# Altium footprint library XL_CRYSTAL_TH_0.3x0.3.PcbLib: 1 footprints
Each footprint in its own frame and in the unit in brackets; x right, y up, seen from the top. Pads: shape width x height; smd on the part's side, far side on the other; paste and mask are expansions set on the pad; w line width, h text height; cw(c..) or ccw(c..) is an arc to the next point about the centre after c.
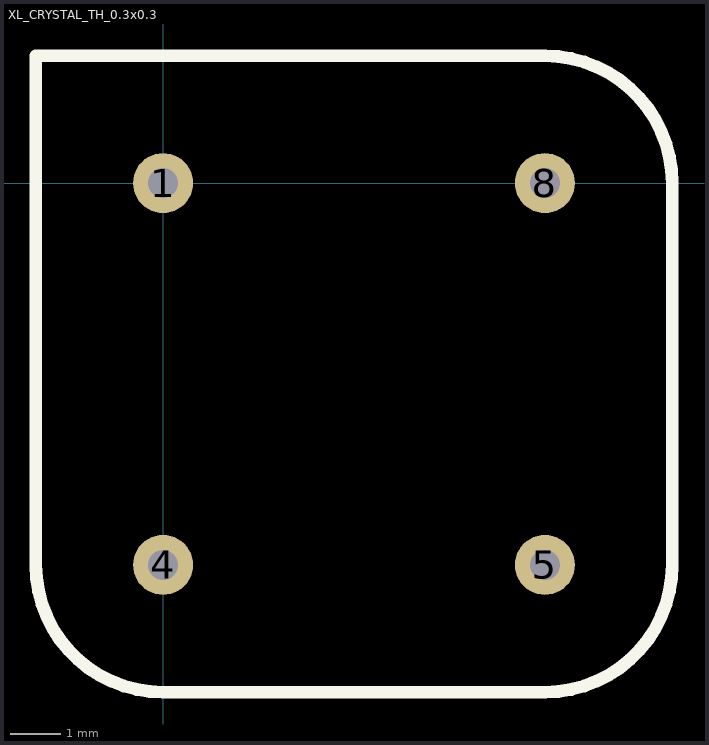
[diagram p0: the footprint, top view; thin cyan lines are the x and y axes]

## XL_CRYSTAL_TH_0.3x0.3 [mm]
pads (4):
  round 1.2 hole 0.6: 1(0,0) 4(0,-7.62) 5(7.62,-7.62) 8(7.62,0)
Top Overlay:
  lines w0.254: -2.54,-7.62 ccw(c0,-7.62) 0,-10.16 7.62,-10.16 ccw(c7.62,-7.62) 10.16,-7.62 10.16,0 ccw(c7.62,0) 7.62,2.54 -2.54,2.54 -2.54,-7.62
3D body: height 5.97, standoff -1.97, extent -2.65,-10.275 10.275,2.65